# Altium schematic symbol library SOD123W.SchLib: 1 symbol
Pins are listed as number, name and electrical type; pins without a type are passive.

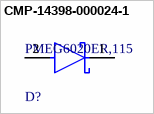
[diagram p0: symbol CMP-14398-000024-1]

## CMP-14398-000024-1
designator D?, comment PMEG6020ER,115
DIODE SCHOTTKY 60V 2A SOD123W; RoHS Compliant: Yes
footprint FP-SOD123W-MFG
pins: 1 C, 2 A